# EAGLE library part CS42888 (library NewSDR)
108 dB, 192 kHz 4-In, 8-Out CODEC Cirrus Logic
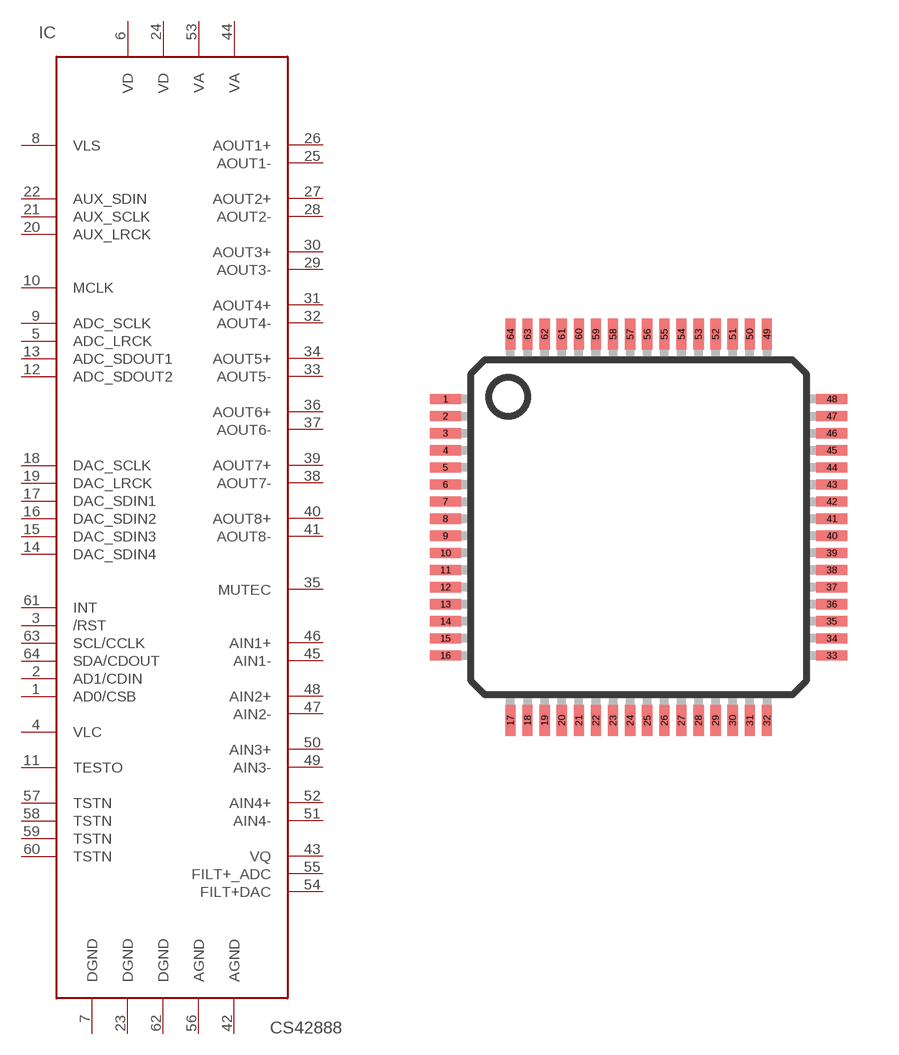
[diagram p52: symbol with the pads of LQFP-ST-64-2; footprint LQFP-ST-64-2]

Designator prefix IC

## CS42888  [LQFP-ST-64-2]
1  AD0/CSB  in
2  AD1/CDIN  in
3  /RST  in
4  VLC  pwr
5  ADC_LRCK
6  VD  pwr
7  DGND  pwr
8  VLS  pwr
9  ADC_SCLK
10  MCLK  in
11  TESTO  in
12  ADC_SDOUT2  in
13  ADC_SDOUT1  in
14  DAC_SDIN4  in
15  DAC_SDIN3  in
16  DAC_SDIN2  in
17  DAC_SDIN1  in
18  DAC_SCLK
19  DAC_LRCK
20  AUX_LRCK  out
21  AUX_SCLK  out
22  AUX_SDIN  in
23  DGND  pwr
24  VD  pwr
25  AOUT1-  out
26  AOUT1+  out
27  AOUT2+  out
28  AOUT2-  out
29  AOUT3-  out
30  AOUT3+  out
31  AOUT4+  out
32  AOUT4-  out
33  AOUT5-  out
34  AOUT5+  out
35  MUTEC  out
36  AOUT6+  out
37  AOUT6-  out
38  AOUT7-  out
39  AOUT7+  out
40  AOUT8+  out
41  AOUT8-  out
42  AGND  pwr
43  VQ  pwr
44  VA  pwr
45  AIN1-  in
46  AIN1+  in
47  AIN2-  in
48  AIN2+  in
49  AIN3-  in
50  AIN3+  in
51  AIN4-  in
52  AIN4+  in
53  VA  pwr
54  FILT+DAC  pas
55  FILT+_ADC  pas
56  AGND  pwr
57  TSTN  in
58  TSTN  in
59  TSTN  in
60  TSTN  in
61  INT
62  DGND  pwr
63  SCL/CCLK  in
64  SDA/CDOUT

## Footprint LQFP-ST-64-2 (pad centres in mm)
64-Lead Low Profile Quad Flat Package [LQFP] (ST-64-2) COMPLIANT TO JEDEC STANDARDS MS-026-BCD Source: http://www.analog.com/UploadedFiles/Data_Sheets/288945048AD7C7019_20_1_2_4_5_6_7_0.pdf
smd 0.9 x 0.3: 1 -5.65,3.75; 2 -5.65,3.25; 3 -5.65,2.75; 4 -5.65,2.25; 5 -5.65,1.75; 6 -5.65,1.25; 7 -5.65,0.75; 8 -5.65,0.25; 9 -5.65,-0.25; 10 -5.65,-0.75; 11 -5.65,-1.25; 12 -5.65,-1.75; 13 -5.65,-2.25; 14 -5.65,-2.75; 15 -5.65,-3.25; 16 -5.65,-3.75; 33 5.65,-3.75; 34 5.65,-3.25; 35 5.65,-2.75; 36 5.65,-2.25; 37 5.65,-1.75; 38 5.65,-1.25; 39 5.65,-0.75; 40 5.65,-0.25; 41 5.65,0.25; 42 5.65,0.75; 43 5.65,1.25; 44 5.65,1.75; 45 5.65,2.25; 46 5.65,2.75; 47 5.65,3.25; 48 5.65,3.75
smd 0.3 x 0.9: 17 -3.75,-5.65; 18 -3.25,-5.65; 19 -2.75,-5.65; 20 -2.25,-5.65; 21 -1.75,-5.65; 22 -1.25,-5.65; 23 -0.75,-5.65; 24 -0.25,-5.65; 25 0.25,-5.65; 26 0.75,-5.65; 27 1.25,-5.65; 28 1.75,-5.65; 29 2.25,-5.65; 30 2.75,-5.65; 31 3.25,-5.65; 32 3.75,-5.65; 49 3.75,5.65; 50 3.25,5.65; 51 2.75,5.65; 52 2.25,5.65; 53 1.75,5.65; 54 1.25,5.65; 55 0.75,5.65; 56 0.25,5.65; 57 -0.25,5.65; 58 -0.75,5.65; 59 -1.25,5.65; 60 -1.75,5.65; 61 -2.25,5.65; 62 -2.75,5.65; 63 -3.25,5.65; 64 -3.75,5.65